# Altium schematic symbol library PIC18F15Q41-ESO.SchLib: 2 symbols
Pins are listed as number, name and electrical type; pins without a type are passive.

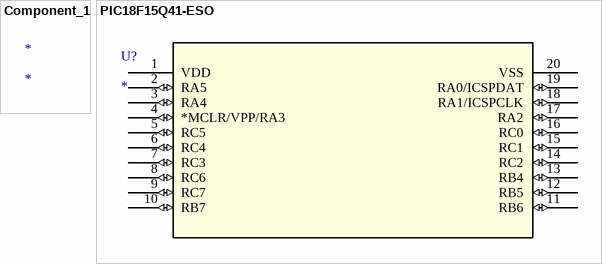
[diagram p0: symbols Component_1 to PIC18F15Q41-ESO]

## Component_1
designator *

## PIC18F15Q41-ESO
designator U?
No Description Available; Mfr_Name: Microchip; RefDes: RefDes; Type: Type
footprint SOIC20_SO_MCH
pins: 1 VDD (power), 2 RA5 (io), 3 RA4 (io), 4 *MCLR/VPP/RA3 (io), 5 RC5 (io), 6 RC4 (io), 7 RC3 (io), 8 RC6 (io), 9 RC7 (io), 10 RB7 (io), 11 RB6 (io), 12 RB5 (io), 13 RB4 (io), 14 RC2 (io), 15 RC1 (io), 16 RC0 (io), 17 RA2 (io), 18 RA1/ICSPCLK (io), 19 RA0/ICSPDAT (io), 20 VSS (power)